# EAGLE library part SN65220 (library newchips)
USB Transient Suppressor
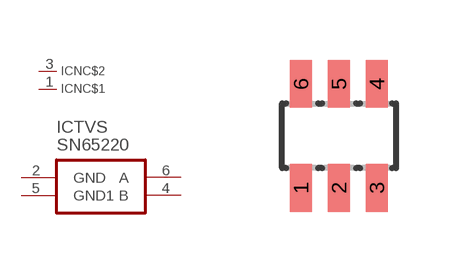
[diagram p9: symbol with the pads of SOT23-6L; footprint SOT23-6L]

Designator prefix IC; gates TVS=SN65220 NC$1=NC NC$2=NC

## SN65220  [SOT23-6L]
1  NC$1:NC  nc
2  TVS:GND  pwr
3  NC$2:NC  nc
4  TVS:B  pas
5  TVS:GND1  pwr
6  TVS:A  pas

## Footprint SOT23-6L (pad centres in mm)
Small Outline Transistor
smd 0.55 x 1.2: 1 -0.95,-1.3; 2 0,-1.3; 3 0.95,-1.3; 4 0.95,1.3; 5 0,1.3; 6 -0.95,1.3